# EAGLE library part AD595 (library Oles komponentbibliotek)
Thermocouple amplifier with cold junction compensation.
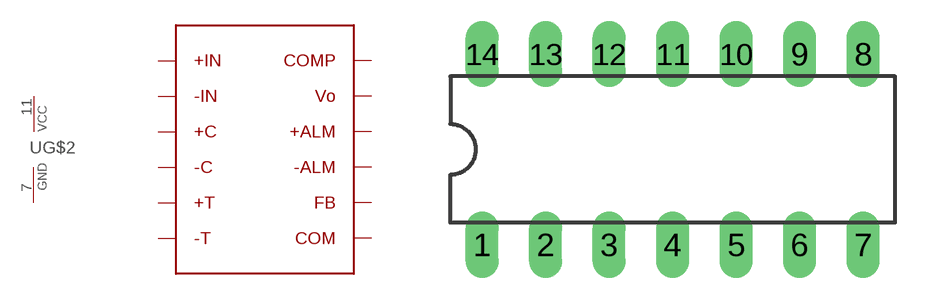
[diagram p51: symbol with the pads of DIL14; footprint DIL14]

Designator prefix -; gates G$1=AD595 G$2=PWRN

## AD595  [DIL14]
1  G$1:IN+  in
2  G$1:C+  in
3  G$1:T+  in
4  G$1:COM  in
5  G$1:T-  in
6  G$1:C-  in
7  G$2:GND  pwr
8  G$1:FB  in
9  G$1:VO  out
10  G$1:COMP  in
11  G$2:VCC  pwr
12  G$1:+ALM
13  G$1:-ALM
14  G$1:IN-  in

## Footprint DIL14 (pad centres in mm)
Dual In Line Package
drill 0.813 long: 1 -7.62,-3.81; 2 -5.08,-3.81; 3 -2.54,-3.81; 4 0,-3.81; 5 2.54,-3.81; 6 5.08,-3.81; 7 7.62,-3.81; 8 7.62,3.81; 9 5.08,3.81; 10 2.54,3.81; 11 0,3.81; 12 -2.54,3.81; 13 -5.08,3.81; 14 -7.62,3.81